# EAGLE library part 66200711022 (library Wire_to_Board_Connectors_rev15d)
WR-MPC3 3.00mm Male Single Row Angled Header with Plastic Pegs, 7 Pins=>Code : Con_WTB_MPC3_1_PCB_66200711022 <http://katalog.we-online.de/media/thumbs2/eican/thb_Con_WTB_MPC3_1_PCB_6620xx11022_pf2.jpg> Details see: http://katalog.we-online.de/en/em/662_0xx_110_22 Created 2014-06-06, Karrer Zheng 2014 (C) Würth Elektronik
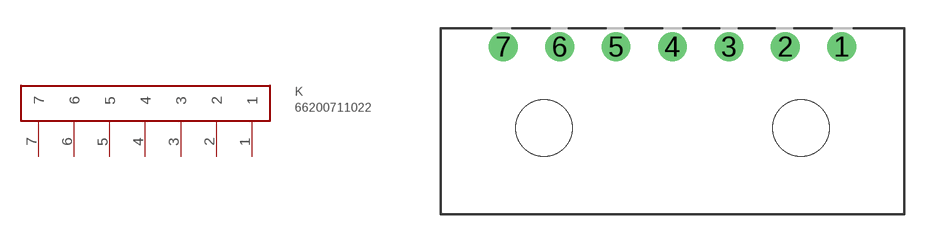
[diagram p334: symbol with the pads of 66200711022; footprint 66200711022]

Designator prefix K

## 66200711022  [66200711022]
1  1
2  2
3  3
4  4
5  5
6  6
7  7

## Footprint 66200711022 (pad centres in mm)
WR-MPC3 3.00mm Male Single Row Angled Header with Plastic Pegs, 7 Pins
drill 1.02: 1 9,4.32; 2 6,4.32; 3 3,4.32; 4 0,4.32; 5 -3,4.32; 6 -6,4.32; 7 -9,4.32
hole 3 at 6.84,0
hole 3 at -6.84,0